# Altium footprint library other_modules.PcbLib: 7 footprints
Each footprint in its own frame and in the unit in brackets; x right, y up, seen from the top. Pads: shape width x height; smd on the part's side, far side on the other; paste and mask are expansions set on the pad; w line width, h text height; cw(c..) or ccw(c..) is an arc to the next point about the centre after c.
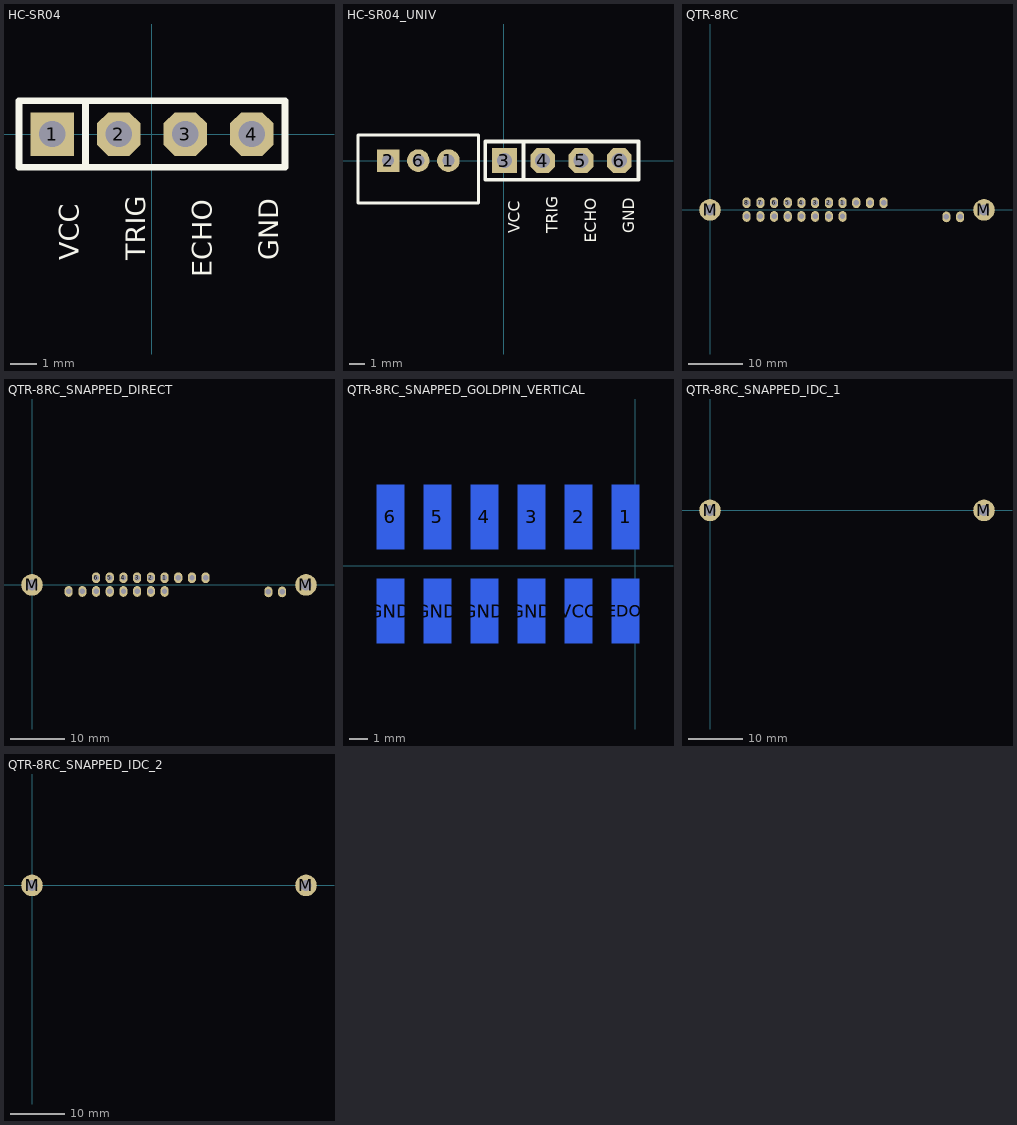
[diagram p0: the footprints below, top view; thin cyan lines are the x and y axes]

## HC-SR04 [mil]
pads (4):
  rect 65x65 hole 39.37: 1(-150,0)
  oct 65x65 hole 39.37: 2(-50,0) 3(50,0) 4(150,0)
Top Overlay:
  lines w10: -100,-50 -100,50 ; -200,-50 200,-50 200,50 -200,50 -200,-50
  text "VCC" at -100,-190 h51.18
  text "TRIG" at 0,-190 h51.18
  text "ECHO" at 100,-215 h51.18
  text "GND" at 200,-190 h51.18
3D body "Samtec-TSW-104-23-F-S.STEP": height 330, standoff -115, extent -200,-50 200,50

## HC-SR04_UNIV [mm]
pads (7):
  round 1.5 hole 0.8: 1(-3.667,0) 6(-5.667,0)
  rect 1.5x1.5 hole 0.8: 2(-7.668,0)
  rect 1.651x1.651 hole 1: 3(0.048,0)
  oct 1.651x1.651 hole 1: 4(2.588,0) 5(5.128,0) 6(7.668,0)
Top Overlay:
  lines w0.2: -9.667,-2.8 -9.667,1.7 -1.667,1.7 -1.667,-2.8 -9.667,-2.8
  lines w0.254: 1.318,-1.27 1.318,1.27 ; -1.222,-1.27 8.938,-1.27 8.938,1.27 -1.222,1.27 -1.222,-1.27
  text "VCC" at 1.318,-4.826 h1.3
  text "TRIG" at 3.858,-4.826 h1.3
  text "ECHO" at 6.398,-5.461 h1.3
  text "GND" at 8.938,-4.826 h1.3
3D body "B3B-PH-K-S.STEP": height 6, standoff -3.4, extent -9.618,-2.8 -1.717,1.7
3D body "Samtec-TSW-104-23-F-S.STEP": height 8.38, standoff -2.92, extent -1.222,-1.27 8.938,1.27

## QTR-8RC [mm] "QTR-8RC Reflectance Sensor Array"
pads (23):
  oval 1.5x2 hole 1: 1(24.575,1.332) 2(22.035,1.332) 3(19.495,1.332) 3V3_BYPASS_1(43.835,-1.295) 3V3_BYPASS_2(46.375,-1.295) 4(16.955,1.332) 5(14.415,1.332) 6(11.875,1.332) 7(9.335,1.332) 8(6.795,1.332) GND(6.795,-1.208) GND(9.335,-1.208) GND(11.875,-1.208) GND(14.415,-1.208) GND(16.955,-1.208) GND(19.495,-1.208) GND(32.195,1.332) LEDON(24.575,-1.208) LEDON(27.115,1.332) VCC(22.035,-1.208) VCC(29.655,1.332)
  round 4 hole 2: M(0,0) M(50.8,0)
Bottom Overlay:
  lines w0.2: -2.413,-2.667 -2.413,10.414 53.213,10.414 53.213,-2.667 -2.413,-2.667
3D body "QTR-8RC_mockup_full.stp": height 10, standoff 7.1, extent -16.58,-3.96 58.42,9.04

## QTR-8RC_SNAPPED_DIRECT [mm] "QTR-8RC Reflectance Sensor Array"
pads (21):
  oval 1.5x2 hole 1: 1(24.575,1.332) 2(22.035,1.332) 3(19.495,1.332) 3V3_BYPASS_A(43.835,-1.295) 3V3_BYPASS_B(46.375,-1.295) 4(16.955,1.332) 5(14.415,1.332) 6(11.875,1.332) GND(6.795,-1.208) GND(9.335,-1.208) GND(11.875,-1.208) GND(14.415,-1.208) GND(16.955,-1.208) GND(19.495,-1.208) GND(32.195,1.332) LEDON(24.575,-1.208) LEDON(27.115,1.332) VCC(22.035,-1.208) VCC(29.655,1.332)
  round 4 hole 2: M(0,0) M(50.8,0)
Bottom Overlay:
  lines w0.2: -2.413,-2.667 -2.413,10.414 53.213,10.414 53.213,-2.667 -2.413,-2.667
3D body "QTR-8RC_mockup.stp": height 15, standoff 12.1, extent -2.423,-2.655 53.168,10.345
3D body "HTST-106-04-G-D-RA.stp": height 15.33, standoff 2.76, extent 6.795,-1.526 29.655,11.111

## QTR-8RC_SNAPPED_GOLDPIN_VERTICAL [mm] "QTR-8RC Reflectance Sensor Array"
pads (12):
  rect 1.5x3.5 smd far side: 1(-0.525,2.64) 2(-3.065,2.64) 3(-5.605,2.64) 4(-8.145,2.64) 5(-10.685,2.64) 6(-13.225,2.64) GND(-13.225,-2.44) GND(-10.685,-2.44) GND(-8.145,-2.44) GND(-5.605,-2.44) LEDON(-0.525,-2.44) VCC(-3.065,-2.44)
Bottom Overlay:
  lines w0.254: -14.305,-2.44 -14.495,-2.44 -14.495,2.64 -14.305,2.64 ; -12.146,-2.44 -11.765,-2.44 ; -12.146,2.64 -11.765,2.64 ; -9.606,-2.44 -9.225,-2.44 ; -9.606,2.64 -9.225,2.64 ; -7.066,-2.44 -6.685,-2.44 ; -7.066,2.64 -6.685,2.64 ; -4.526,-2.44 -4.145,-2.44 ; -4.526,2.64 -4.145,2.64 ; -1.986,-2.44 -1.605,-2.44 -1.795,-2.44 ; -1.986,2.64 -1.605,2.64 -1.795,2.64 -1.795,0.1 0.745,0.1 ; 0.554,-2.44 0.745,-2.44 0.745,2.64 0.554,2.64
3D body "SSM-106-S-DV.stp": height 7.37, standoff -0.05, extent -14.495,-3.418 0.745,3.618
3D body "Samtec-TSW-106-23-F-D.STEP": height 12.72, standoff 1.42, extent -14.495,-2.44 0.745,2.64
3D body "QTR-8RC_mockup.stp": height 12, standoff 9.1, extent -27.823,-2.716 27.768,10.284
3D body "HTST-106-04-G-D-RA.stp": height 15.33, standoff 2.76, extent -18.605,-1.587 4.255,11.049

## QTR-8RC_SNAPPED_IDC_1 [mm] "QTR-8RC Reflectance Sensor Array"
pads (2):
  round 4 hole 2: M(0,0) M(50.8,0)
Bottom Overlay:
  lines w0.2: 4.2,-30.3 4.2,10.4 ; 29.7,-30.3 29.7,10.4 ; -2.413,-2.667 -2.413,10.414 53.213,10.414 53.213,-2.667 -2.413,-2.667
3D body "Samtec-HTST-107-01-G-D-RA.step": height 19.24, standoff 6.54, extent 4.255,-1.488 29.655,11.466
3D body "STEP-61201423021-rev1.stp": height 14.2, standoff 7.34, extent 5.67,5.3 28.13,21
3D body "QTR-8RC_mockup.stp": height 19, standoff 16.1, extent -2.423,-2.655 53.168,10.345
3D body "User Library-MADA-16.step": height 19.7, standoff -3.7, extent -2.3,-2.3 2.3,2.3
3D body "User Library-MADA-16.step": height 19.7, standoff -3.7, extent 48.5,-2.3 53.1,2.3

## QTR-8RC_SNAPPED_IDC_2 [mm] "QTR-8RC Reflectance Sensor Array"
pads (2):
  round 4 hole 2: M(0,0) M(50.8,0)
Bottom Overlay:
  lines w0.2: 4.2,-30.3 4.2,10.4 ; 29.7,-30.3 29.7,10.4 ; -2.413,-2.667 -2.413,10.414 53.213,10.414 53.213,-2.667 -2.413,-2.667
3D body "QTR-8RC_mockup.stp": height 19, standoff 16.1, extent -2.423,-2.655 53.168,10.345
3D body "User Library-MADA-16.step": height 19.7, standoff -3.7, extent -2.3,-2.3 2.3,2.3
3D body "User Library-MADA-16.step": height 19.7, standoff -3.7, extent 48.5,-2.3 53.1,2.3
3D body "61201422323.stp": height 19.4, standoff 8.8, extent 5.34,-2.938 28.57,3.062